# EAGLE library part MDSSV-BD06 (library con-yamaichi)
YAMAICHI CONNECTOR
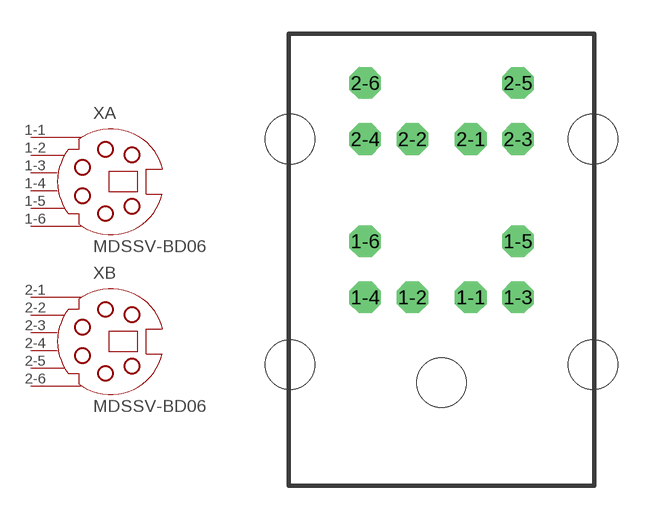
[diagram p16: symbol with the pads of SSV-BD06; footprint SSV-BD06]

Designator prefix X; gates A=SSV-BC06 B=SSV-BC06

## MDSSV-BD06  [SSV-BD06]
1-1  A:1  pas
1-2  A:2  pas
1-3  A:3  pas
1-4  A:4  pas
1-5  A:5  pas
1-6  A:6  pas
2-1  B:1  pas
2-2  B:2  pas
2-3  B:3  pas
2-4  B:4  pas
2-5  B:5  pas
2-6  B:6  pas

## Footprint SSV-BD06 (pad centres in mm)
Mini Din YAMAICHI CONNECTOR
drill 0.9 octagon: 1-1 1.3,8.5; 1-2 -1.3,8.5; 1-3 3.4,8.5; 1-4 -3.4,8.5; 1-5 3.4,11; 1-6 -3.4,11; 2-1 1.3,15.55; 2-2 -1.3,15.55; 2-3 3.4,15.55; 2-4 -3.4,15.55; 2-5 3.4,18.05; 2-6 -3.4,18.05
hole 2.2 at -6.75,15.55
hole 2.2 at 0,4.7
hole 2.2 at 6.75,15.55
hole 2.2 at -6.75,5.5
hole 2.2 at 6.75,5.5